# Altium footprint library PCB - LEADLESS - DFN - MICROCHIP WDFN-8 2x2MM.PcbLib: 1 footprints
Each footprint in its own frame and in the unit in brackets; x right, y up, seen from the top. Pads: shape width x height; smd on the part's side, far side on the other; paste and mask are expansions set on the pad; w line width, h text height; cw(c..) or ccw(c..) is an arc to the next point about the centre after c.
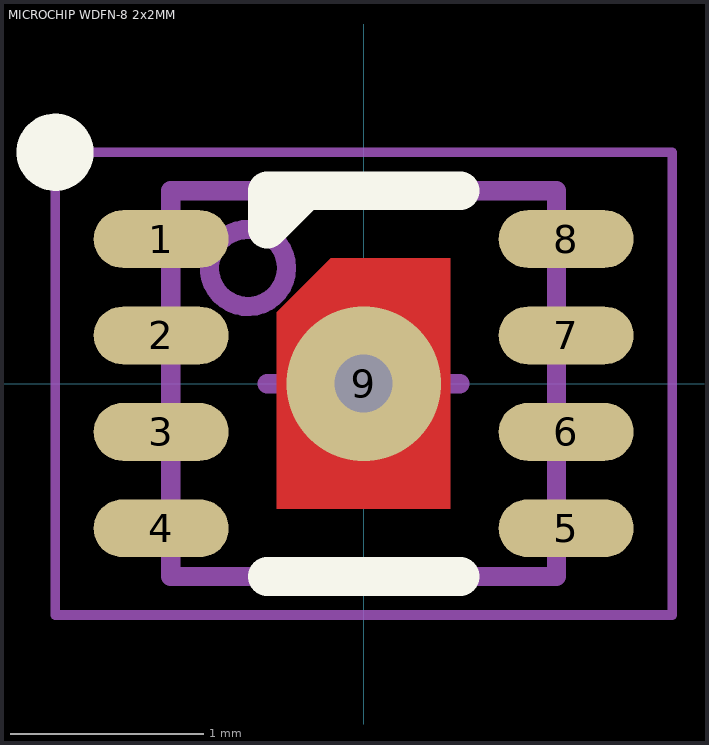
[diagram p0: the footprint, top view; thin cyan lines are the x and y axes]

## MICROCHIP WDFN-8 2x2MM [mm] "Temperature Sensor Digital - Local -40°C ~ 125°C, 8 Leads, Body 2x2mm, Package 8-VFDFN Exposed Pad"
height 0.8
pads (9):
  oval 0.7x0.3 smd: 1(-1.05,0.75) 2(-1.05,0.25) 3(-1.05,-0.25) 4(-1.05,-0.75) 5(1.05,-0.75) 6(1.05,-0.25) 7(1.05,0.25) 8(1.05,0.75)
  rect 0.5x0.5 smd paste+0 mask+0: 9(0,0)
via 0,0 diameter 0.8 hole 0.3
Top Layer:
  region: -0.45,-0.65 -0.45,0.37 -0.17,0.65 0.45,0.65 0.45,-0.65
Top Overlay:
  circle w0.2: c-1.6,1.2 r0.1
  lines w0.2: -0.5,-1 0.5,-1 ; -0.3,1 -0.5,0.8 -0.5,1 0.5,1
Mechanical 13:
  circle w0.1: c-0.6,0.6 r0.2
  lines w0.1: -1,-1 -1,1 1,1 1,-1 -1,-1
Mechanical 15 (Mech15):
  lines w0.05: -1.6,-1.2 1.6,-1.2 1.6,1.2 -1.6,1.2 -1.6,-1.2
  lines w0.1: -0.5,0 0,0 ; 0,-0.5 0,0 ; 0,0.5 0,0 ; 0.5,0 0,0
3D body: height 0.8, standoff 0.05, extent -1,-1 1,1
3D body: height 1.09, standoff -0.01, extent 0,0 0,0
3D body: height 1, standoff 0, extent 0,0 0,0
3D body: height 1.09, standoff -0.01, extent 0,0 0,0
3D body: height 1, standoff 0, extent 0,0 0,0
3D body: height 1.05, standoff 0, extent 0,0 0,0